# Altium footprint library 10K var resistance.PcbLib: 1 footprints
Each footprint in its own frame and in the unit in brackets; x right, y up, seen from the top. Pads: shape width x height; smd on the part's side, far side on the other; paste and mask are expansions set on the pad; w line width, h text height; cw(c..) or ccw(c..) is an arc to the next point about the centre after c.
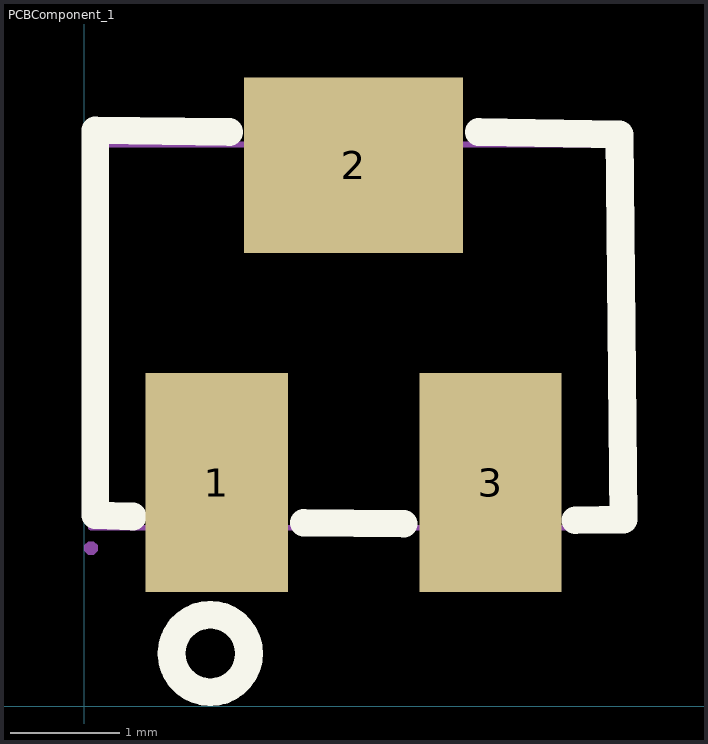
[diagram p0: the footprint, top view; thin cyan lines are the x and y axes]

## PCBComponent_1 [mm]
pads (3):
  rect 1.3x2 smd paste+0 mask+0.051: 1(1.21,2.041) 3(3.71,2.041)
  rect 2x1.6 smd paste+0 mask+0.051: 2(2.46,4.941)
Top Overlay:
  lines w0.254: 0.442,1.732 0.099,1.743 0.099,5.261 1.322,5.245 ; 1.504,0.478 cw(c1.15,0.481) 1.504,0.483 ; 2.003,1.675 2.917,1.666 ; 3.603,5.244 4.887,5.223 4.925,1.705 4.486,1.698
Mechanical 6:
  circle w0.4: c1.21,1.951 r0.2
Mechanical 15:
  region: 1.81,4.33 1.81,5.33 3.11,5.33 3.11,4.33
  region: 3.31,1.444 3.31,2.444 4.11,2.444 4.11,1.444
  region: 0.81,1.444 0.81,2.444 1.61,2.444 1.61,1.444
  region: 0.12,1.443 0.12,1.468 0.085,1.503 0.035,1.503 0,1.468 0,1.443 0,1.419 0.035,1.383 0.085,1.383 0.12,1.419 0.12,1.443
  lines w0.051: 0.06,1.631 0.06,5.131 4.86,5.131 4.86,1.631 0.06,1.631